# EAGLE library part 87758-3816 (library con-molex)
38 Pin - 2mm Dual Row Single Wafer, Vertical T/H HDR Source: http://www.molex.com/pdm_docs/sd/877580616_sd.pdf
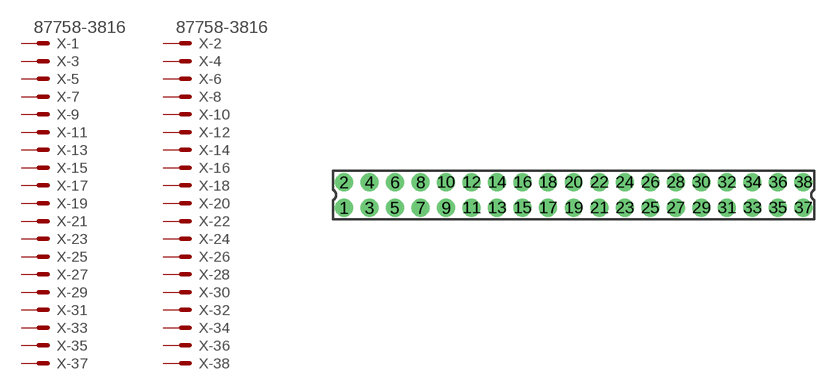
[diagram p191: symbol with the pads of 87758-3816; footprint 87758-3816]

Designator prefix X; gates -1=MV -2=MV -3=M -4=M -5=M -6=M -7=M -8=M -9=M -10=M -11=M -12=M -13=M -14=M -15=M -16=M -17=M -18=M -19=M -20=M -21=M -22=M -23=M -24=M -25=M -26=M -27=M -28=M -29=M -30=M -31=M -32=M -33=M -34=M -35=M -36=M -37=M -38=M

## 87758-3816  [87758-3816]
1  -1:S  pas
2  -2:S  pas
3  -3:S  pas
4  -4:S  pas
5  -5:S  pas
6  -6:S  pas
7  -7:S  pas
8  -8:S  pas
9  -9:S  pas
10  -10:S  pas
11  -11:S  pas
12  -12:S  pas
13  -13:S  pas
14  -14:S  pas
15  -15:S  pas
16  -16:S  pas
17  -17:S  pas
18  -18:S  pas
19  -19:S  pas
20  -20:S  pas
21  -21:S  pas
22  -22:S  pas
23  -23:S  pas
24  -24:S  pas
25  -25:S  pas
26  -26:S  pas
27  -27:S  pas
28  -28:S  pas
29  -29:S  pas
30  -30:S  pas
31  -31:S  pas
32  -32:S  pas
33  -33:S  pas
34  -34:S  pas
35  -35:S  pas
36  -36:S  pas
37  -37:S  pas
38  -38:S  pas

## Footprint 87758-3816 (pad centres in mm)
38 Pin - 2mm Dual Row Single Wafer, Vertical T/H HDR Source: http://www.molex.com/pdm_docs/sd/877580616_sd.pdf
drill 0.9 pad 1.27 round: 1 -18,-1; 2 -18,1; 3 -16,-1; 4 -16,1; 5 -14,-1; 6 -14,1; 7 -12,-1; 8 -12,1; 9 -10,-1; 10 -10,1; 11 -8,-1; 12 -8,1; 13 -6,-1; 14 -6,1; 15 -4,-1; 16 -4,1; 17 -2,-1; 18 -2,1; 19 0,-1; 20 0,1; 21 2,-1; 22 2,1; 23 4,-1; 24 4,1; 25 6,-1; 26 6,1; 27 8,-1; 28 8,1; 29 10,-1; 30 10,1; 31 12,-1; 32 12,1; 33 14,-1; 34 14,1; 35 16,-1; 36 16,1; 37 18,-1; 38 18,1